# EAGLE library part KEM-12088-ASR (library led-seg)
KEM-12088-ASR Super bright 3mm red led matrix 8x8. 625nm with 50 mcd on one led.
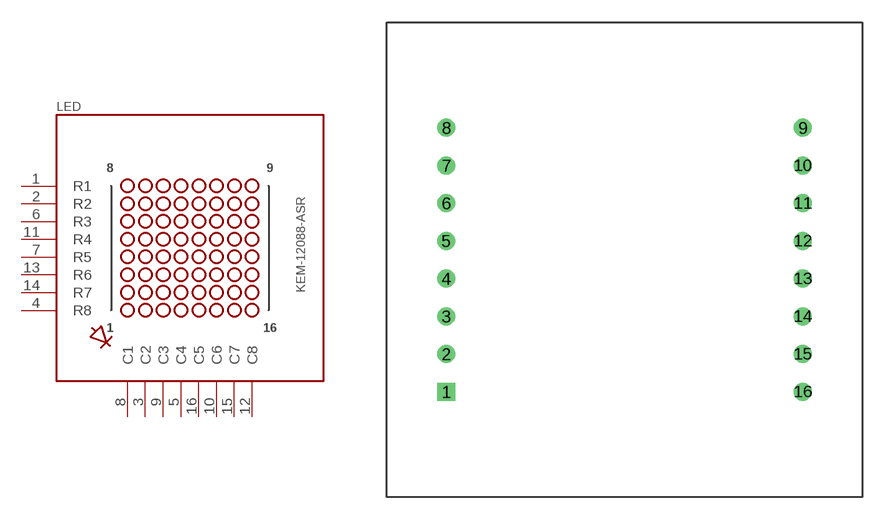
[diagram p14: symbol with the pads of 8X8_32MM; footprint 8X8_32MM]

Designator prefix LED

## KEM-12088-ASR  [8X8_32MM]
1  R1  in
2  R2  in
3  C2  in
4  R8  in
5  C4  in
6  R3  in
7  R5  in
8  C1  in
9  C3  in
10  C6  in
11  R4  in
12  C8  in
13  R6  in
14  R7  in
15  C7  in
16  C5  in

## Footprint 8X8_32MM (pad centres in mm)
drill 0.7 square: 1 -12,-8.89
drill 0.7: 2 -12,-6.35; 3 -12,-3.81; 4 -12,-1.27; 5 -12,1.27; 6 -12,3.81; 7 -12,6.35; 8 -12,8.89; 9 12,8.89; 10 12,6.35; 11 12,3.81; 12 12,1.27; 13 12,-1.27; 14 12,-3.81; 15 12,-6.35; 16 12,-8.89